# Altium footprint library GENERIC_LIB.PcbLib: 15 footprints
Each footprint in its own frame and in the unit in brackets; x right, y up, seen from the top. Pads: shape width x height; smd on the part's side, far side on the other; paste and mask are expansions set on the pad; w line width, h text height; cw(c..) or ccw(c..) is an arc to the next point about the centre after c.
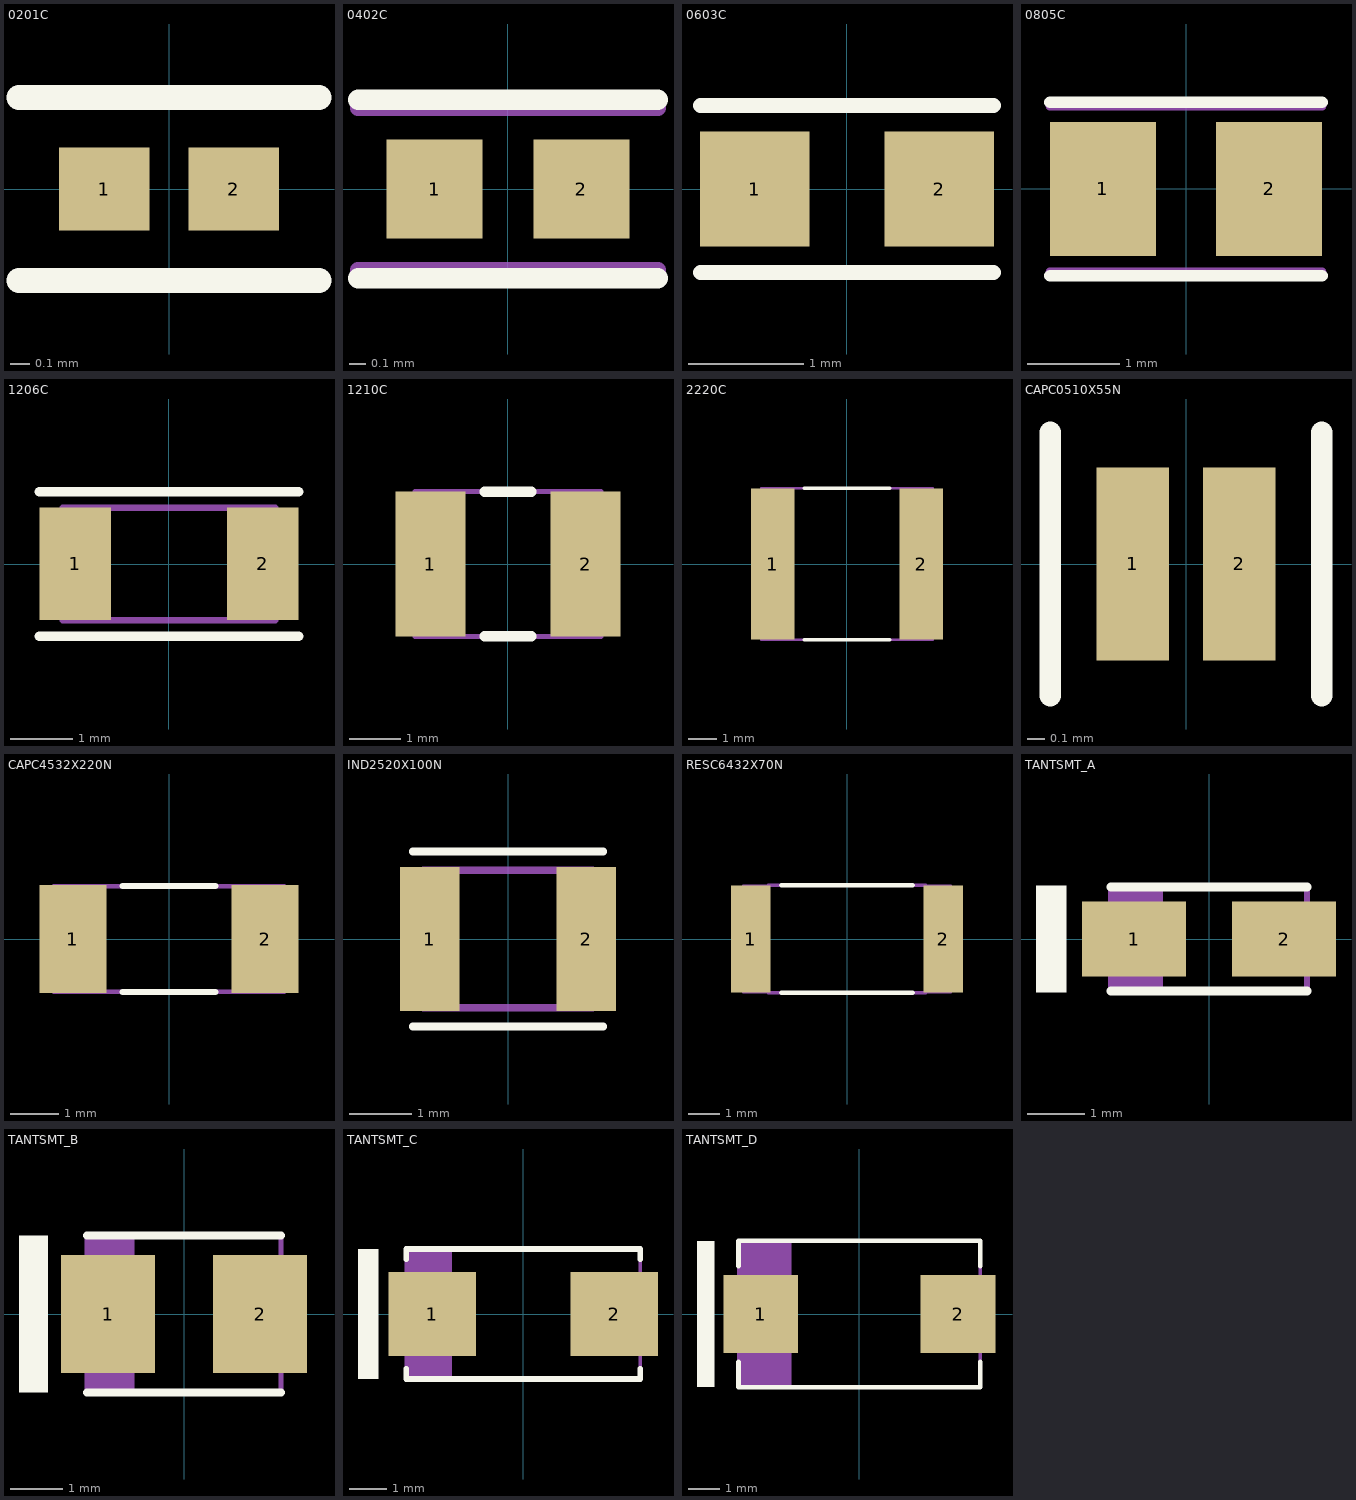
[diagram p0: the footprints below, top view; thin cyan lines are the x and y axes]

## 0201C [mm] "0201"
height 0.33
pads (2):
  rect 0.46x0.42 smd: 1(-0.33,0) 2(0.33,0)
Top Overlay:
  lines w0.127: -0.762,-0.464 0.762,-0.464 ; -0.762,0.464 0.762,0.464
Mechanical 3:
  lines w0.102: -0.762,-0.464 0.762,-0.464 ; -0.762,0.464 0.762,0.464
  text ".Designator" at -1.08,-0.24 h0.51
3D body: height 0.33, standoff 0, extent -0.32,-0.16 -0.17,0.16
3D body: height 0.33, standoff 0, extent 0.17,-0.16 0.32,0.16
3D body: height 0.33, standoff 0, extent -0.17,-0.16 0.17,0.16

## 0402C [mm]
height 0.55
pads (2):
  rect 0.6x0.62 smd: 1(-0.46,0) 2(0.46,0)
Top Overlay:
  lines w0.127: -0.94,-0.559 0.94,-0.559 ; -0.94,0.559 0.94,0.559
Mechanical 3:
  lines w0.102: -0.94,-0.508 0.94,-0.508 ; -0.94,0.508 0.94,0.508
  text ".Designator" at -1.067,-0.178 h0.51
3D body: height 0.55, standoff 0, extent -0.3,-0.25 0.3,0.25
3D body: height 0.55, standoff 0, extent -0.5,-0.25 -0.3,0.25
3D body: height 0.55, standoff 0, extent 0.3,-0.25 0.5,0.25

## 0603C [mm]
height 0.9
pads (2):
  rect 0.95x1 smd: 1(-0.8,0) 2(0.8,0)
Top Overlay:
  lines w0.127: -1.27,-0.724 1.27,-0.724 ; -1.27,0.724 1.27,0.724
Mechanical 3:
  lines w0.102: -1.27,-0.724 1.27,-0.724 ; -1.27,0.724 1.27,0.724
  text ".Designator" at -1.143,-0.254 h0.51
3D body: height 0.9, standoff 0, extent -0.374,-0.474 0.375,0.475
3D body: height 0.9, standoff 0, extent 0.376,-0.474 0.875,0.475
3D body: height 0.9, standoff 0, extent -0.874,-0.474 -0.375,0.475

## 0805C [mm]
height 1.45
pads (2):
  rect 1.15x1.45 smd: 1(-0.9,0) 2(0.9,0)
Top Overlay:
  lines w0.127: -1.473,-0.941 1.473,-0.941 ; -1.473,0.94 1.473,0.94
Mechanical 3:
  lines w0.102: -1.473,-0.903 1.473,-0.903 ; -1.473,0.903 1.473,0.903
  text ".Designator" at -1.143,-0.254 h0.51
3D body: height 1.45, standoff 0, extent -1.099,-0.724 -0.326,0.724
3D body: height 1.45, standoff 0, extent -0.324,-0.724 0.324,0.724
3D body: height 1.45, standoff 0, extent 0.326,-0.724 1.099,0.724

## 1206C [mm]
height 1.9
pads (2):
  rect 1.15x1.8 smd: 1(-1.5,0) 2(1.5,0)
Top Overlay:
  lines w0.152: -2.075,-1.154 2.075,-1.154 ; -2.075,1.154 2.075,1.154
Mechanical 3:
  lines w0.102: -1.7,-0.9 -1.7,0.9 1.7,0.9 1.7,-0.9 -1.7,-0.9
  text ".Designator" at -1.092,-0.203 h0.51
3D body: height 1.9, standoff 0, extent -1.7,-0.9 -1.25,0.9
3D body: height 1.9, standoff 0, extent 1.25,-0.9 1.7,0.9
3D body: height 1.9, standoff 0, extent -1.25,-0.9 1.25,0.9

## 1210C [mm]
height 2.8
pads (2):
  rect 1.35x2.8 smd: 1(-1.5,0) 2(1.5,0)
Top Overlay:
  lines w0.203: -0.45,-1.4 0.45,-1.4 ; -0.45,1.4 0.45,1.4
Mechanical 3:
  lines w0.102: -1.8,-1.4 -1.8,1.4 1.8,1.4 1.8,-1.4 -1.8,-1.4
  text ".Designator" at -1.575,-0.325 h0.76
3D body: height 2.8, standoff 0, extent 1.05,-1.4 1.8,1.4
3D body: height 2.8, standoff 0, extent -1.8,-1.4 -1.05,1.4
3D body: height 2.8, standoff 0, extent -1.05,-1.4 1.05,1.4

## 2220C [mm] "5750"
height 1.8
pads (2):
  rect 1.55x5.4 smd: 1(-2.65,0) 2(2.65,0)
Top Overlay:
  lines w0.127: -1.524,-2.7 1.524,-2.7 ; -1.524,2.7 1.524,2.7
Mechanical 3:
  lines w0.102: -2,-2.7 -2,2.7 ; 2,-2.7 2,2.7 ; -3.05,-2.7 3.05,-2.7 3.05,2.7 -3.05,2.7 -3.05,-2.7
  text ".Designator" at -2.159,-0.381 h1.02
3D body: height 1.8, standoff 0, extent -3.05,-2.7 -2,2.7
3D body: height 1.8, standoff 0, extent -2,-2.7 2,2.7
3D body: height 1.8, standoff 0, extent 2,-2.7 3.05,2.7

## CAPC0510X55N [mm] "Low ESL (Reverse Geometry) 0204 (0510 Metric)"
height 0.55
pads (2):
  rect 0.42x1.12 smd: 1(-0.31,0) 2(0.31,0)
Top Overlay:
  lines w0.127: -0.787,-0.762 -0.787,0.762 ; 0.787,-0.762 0.787,0.762
Mechanical 3:
  lines w0.102: -0.787,-0.75 -0.787,0.75 ; 0.787,-0.75 0.787,0.75
  text ".Designator" at 0.225,-0.6 h0.51
3D body: height 0.55, standoff 0, extent -0.1,-0.525 0.1,0.525
3D body: height 0.55, standoff 0, extent -0.3,-0.525 -0.1,0.525
3D body: height 0.55, standoff 0, extent 0.1,-0.525 0.3,0.525

## CAPC4532X220N [mm] "1812 (4532 Metric)"
height 2.2
pads (2):
  rect 1.4x2.25 smd: 1(-2,0) 2(2,0)
Top Overlay:
  lines w0.127: -0.97,-1.1 0.97,-1.1 ; -0.97,1.1 0.97,1.1
Mechanical 3:
  lines w0.051: -2.1,-1.1 -2.1,1.1 ; 2.1,-1.1 2.1,1.1
  lines w0.102: -2.4,-1.1 -2.4,1.1 2.4,1.1 2.4,-1.1 -2.4,-1.1
  text ".Designator" at -1.675,-0.35 h0.76
3D body: height 2.2, standoff 0, extent -2.1,-1.1 2.1,1.1
3D body: height 2.2, standoff 0, extent 2.1,-1.1 2.4,1.1
3D body: height 2.2, standoff 0, extent -2.4,-1.1 -2.1,1.1

## IND2520X100N [mm] "0.098\" L x 0.079\" W (2.50mm x 2.00mm)"
height 1
pads (2):
  rect 0.95x2.3 smd: 1(-1.25,0) 2(1.25,0)
Top Overlay:
  lines w0.127: -1.524,-1.397 1.524,-1.397 ; -1.524,1.397 1.524,1.397
Mechanical 3:
  lines w0.127: -1.35,1.092 -1.35,-1.1 1.35,-1.1 1.35,1.092 ; -1.35,1.1 1.35,1.1
  text ".Designator" at -1.675,-0.35 h0.76
3D body: height 1, standoff 0, extent -1.35,-1.1 -0.6,1.1
3D body: height 1, standoff 0, extent 0.6,-1.1 1.35,1.1
3D body: height 1, standoff 0, extent -0.6,-1.1 0.6,1.1

## RESC6432X70N [mm] "2512 (6432 Metric)"
height 0.7
pads (2):
  rect 1.25x3.4 smd: 1(-3.05,0) 2(3.05,0)
Top Overlay:
  lines w0.152: -2.075,-1.7 2.075,-1.7 ; -2.075,1.7 2.075,1.7
Mechanical 3:
  lines w0.051: -2.5,-1.7 -3.3,-1.7 -3.3,1.7 -2.5,1.7 ; 2.5,-1.7 3.3,-1.7 3.3,1.7 2.5,1.7
  lines w0.102: -2.5,-1.7 2.5,-1.7 2.5,1.7 -2.5,1.7 -2.5,-1.7
  text ".Designator" at -2.175,-0.375 h1.02
3D body: height 0.7, standoff 0, extent -3.3,-1.7 -2.5,1.7
3D body: height 0.7, standoff 0, extent 2.5,-1.7 3.3,1.7
3D body: height 0.7, standoff 0, extent -2.5,-1.7 2.5,1.7

## TANTSMT_A [mm]
height 1.8
pads (2):
  rect 1.8x1.3 smd: 1(-1.3,0) 2(1.3,0)
Top Overlay:
  rectangle: -3,-0.925 -2.475,0.925
  lines w0.152: -1.7,-0.9 1.7,-0.9 ; -1.7,0.9 1.7,0.9
Mechanical 3:
  rectangle: -1.7,-0.9 -0.8,0.9
  lines w0.102: -1.7,-0.9 -1.7,0.9 1.7,0.9 1.7,-0.9 -1.7,-0.9
  text ".Designator" at -0.889,-0.381 h0.76
3D body: height 0.8, standoff 0, extent 1.6,-0.65 1.7,0.65
3D body: height 1.8, standoff 0, extent -1.6,-0.9 1.6,0.9
3D body: height 0.8, standoff 0, extent -1.7,-0.65 -1.6,0.65
3D body: height 1.81, standoff 1.8, extent -1.6,-0.9 -0.8,0.9

## TANTSMT_B [mm]
height 2.1
pads (2):
  rect 1.8x2.25 smd: 1(-1.45,0) 2(1.45,0)
Top Overlay:
  rectangle: -3.15,-1.5 -2.6,1.5
  lines w0.152: -1.85,-1.5 1.85,-1.5 ; -1.85,1.5 1.85,1.5
Mechanical 3:
  rectangle: -1.85,-1.5 -0.95,1.5
  lines w0.102: -1.85,-1.5 -1.85,1.5 1.85,1.5 1.85,-1.5 -1.85,-1.5
  text ".Designator" at -1.651,-0.254 h0.76
3D body: height 2.1, standoff 0, extent -1.75,-1.475 1.75,1.525
3D body: height 0.9, standoff 0, extent -1.85,-1.15 -1.75,1.15
3D body: height 2.11, standoff 2.1, extent -1.75,-1.5 -0.875,1.5
3D body: height 0.9, standoff 0, extent 1.75,-1.15 1.85,1.15

## TANTSMT_C [mm]
height 2.8
pads (2):
  rect 2.35x2.25 smd: 1(-2.45,0) 2(2.45,0)
Top Overlay:
  rectangle: -4.45,-1.75 -3.9,1.75
  lines w0.152: -3.15,-1.475 -3.15,-1.75 3.15,-1.75 3.15,-1.475 ; -3.15,1.475 -3.15,1.75 3.15,1.75 ; 3.15,1.475 3.15,1.475 ; 3.15,1.475 3.15,1.75 ; 3.15,1.75 3.15,1.75
Mechanical 3:
  rectangle: -3.15,-1.75 -1.925,1.75
  lines w0.102: -3.15,-1.75 3.15,-1.75 3.15,1.75 -3.15,1.75 -3.15,-1.75
  text ".Designator" at -1.7,-0.425 h1.02
3D body: height 1.2, standoff 0, extent 3.05,-1.15 3.15,1.15
3D body: height 2.81, standoff 2.8, extent -3.05,-1.75 -1.5,1.75
3D body: height 2.8, standoff 0, extent -3.05,-1.75 3.05,1.75
3D body: height 1.2, standoff 0, extent -3.15,-1.15 -3.05,1.15

## TANTSMT_D [mm]
height 4.3
pads (2):
  rect 2.35x2.45 smd: 1(-3.1,0) 2(3.1,0)
Top Overlay:
  rectangle: -5.1,-2.3 -4.55,2.3
  lines w0.152: -3.8,-1.5 -3.8,-2.3 3.8,-2.3 3.8,-1.5 ; -3.8,1.5 -3.8,2.3 3.8,2.3 3.8,1.5
Mechanical 3:
  rectangle: -3.8,-2.3 -2.125,2.3
  lines w0.102: -3.8,-2.3 3.8,-2.3 3.8,2.3 -3.8,2.3 -3.8,-2.3
  text ".Designator" at -2.794,-0.508 h1.27
3D body: height 2, standoff 0, extent 3.7,-1.25 3.8,1.25
3D body: height 4.31, standoff 4.3, extent -3.7,-2.3 -2.125,2.3
3D body: height 4.3, standoff 0, extent -3.7,-2.3 3.7,2.3
3D body: height 2, standoff 0, extent -3.8,-1.25 -3.7,1.25